# EAGLE library part NETZER (library Netzer)
Netzer from MoBaCon The tiny ethernet module with common serial interfaces like UART, SPI or I2C and a few GPIOs. Visit the Netzer project sites <http://www.mobacon.de/Netzer/> for more infos!
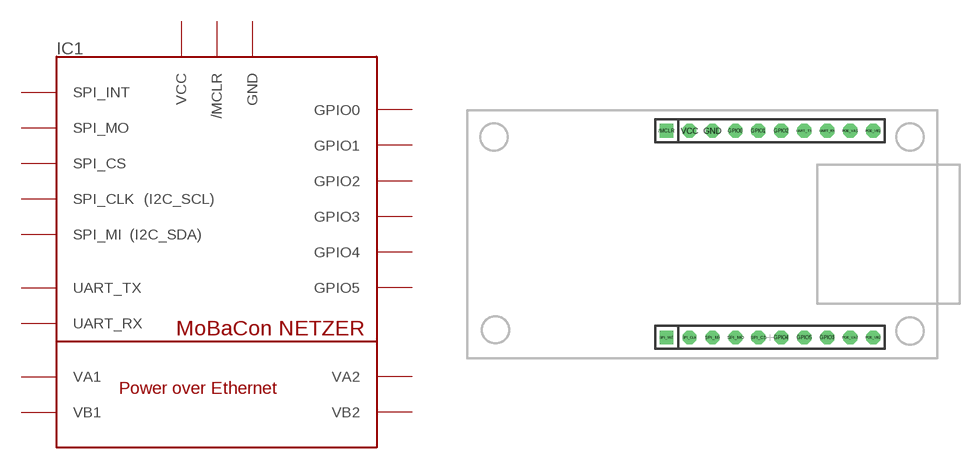
[diagram p0: symbol with the pads of NETZER; footprint NETZER]

Designator prefix IC1

## NETZER  [NETZER]
/MCLR  /MCLR
GND  GND
GPIO0  GPIO0
GPIO1  GPIO1
GPIO2  GPIO2
GPIO3  GPIO3
GPIO4  GPIO4
GPIO5  GPIO5
POE_VA1  VA1
POE_VA2  VA2
POE_VB1  VB1
POE_VB2  VB2
SPI_CLK  SPI_CLK
SPI_CS  SPI_CS
SPI_INT  SPI_INT
SPI_MI  SPI_MI
SPI_MO  SPI_MO
UART_RX  UART_RX
UART_TX  UART_TX
VCC  VCC

## Footprint NETZER (pad centres in mm)
Netzer R1.1 as package for Netzer based designs Consists of two 10 pol 2.54 mm pin headers. Netzer supply and Reset Netzer is supplied via the 3V3 pin and the GND pin. The voltage should be in between 3.1 V and 3.6 V. Decoupling and buffering capacities are not needed. Grounding this pin resets Netzer, a short impulse awakes Netzer from sleep (after a shut down). Leave the pin open if not needed. No pullups are required. Power over Ethernet (PoE, IEEE802.3af) The Poe-Pins VA1 and VA2 or VB1 and VB2 deliver the PoE-Voltage 48V directly from the Ethernet cable. It depends on the power supply which pairs carry the voltage. Connect a PoE conform DC/DC converter here. Netzer IO Here is a short overview over the 13 available pins of Netzer Rev 1.1. Netzer Name PIC Pin Maximum output current Maximum input voltage Description SPI_INT RC2 25 mA 5.5 V Interrupt pin of the SPI module (only used in SPI slave mode) - PWM output SPI_CLK RC3 25 mA 5.5 V Clock line of the SPI module SPI_MI RC4 25 mA 5.5 V Data input of the SPI module SPI_MO RC5 25 mA 5.5 V Data output of the SPI module SPI_CS RF7 2 mA 5.5 V Select line of the SPI module (only used in SPI slave mode) RX RC7 25 mA 5.5 V UART Receive line TX RC6 25 mA 5.5 V UART Transmit line IO0 RB0 25 mA 5.5 V Interrupt input IO1 RB1 25 mA 5.5 V Interrupt input IO2 RB2 25 mA 5.5 V Interrupt input IO3 RD1 8 mA 5.5 V PWM output IO4 RA2 2 mA 3.3 V ADC input IO5 RA3 2 mA 3.3 V ADC input
drill 1.016 square: /MCLR 22.07,25.16; SPI_INT 22.07,2.3
drill 1.016 octagon: GND 27.15,25.16; GPIO0 29.69,25.16; GPIO1 32.23,25.16; GPIO2 34.77,25.16; GPIO3 39.85,2.3; GPIO4 34.77,2.3; GPIO5 37.31,2.3; POE_VA1 42.39,25.16; POE_VA2 42.39,2.3; POE_VB1 44.93,25.16; POE_VB2 44.93,2.3; SPI_CLK 24.61,2.3; SPI_CS 32.23,2.3; SPI_MI 27.15,2.3; SPI_MO 29.69,2.3; UART_RX 39.85,25.16; UART_TX 37.31,25.16; VCC 24.61,25.16